# Altium schematic symbol library Schlib1.SchLib: 1 symbol
Pins are listed as number, name and electrical type; pins without a type are passive.

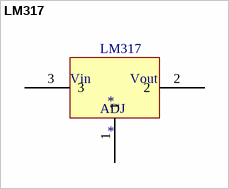
[diagram p0: symbol LM317]

## LM317
designator *
pins: 1, 2, 3
text: Vin; Vout; ADJ